# Altium integrated library Renesas Microcontroller 720.IntLib: 63 symbols (part 1 of 3)
Pins are listed as number, name and electrical type; pins without a type are passive.

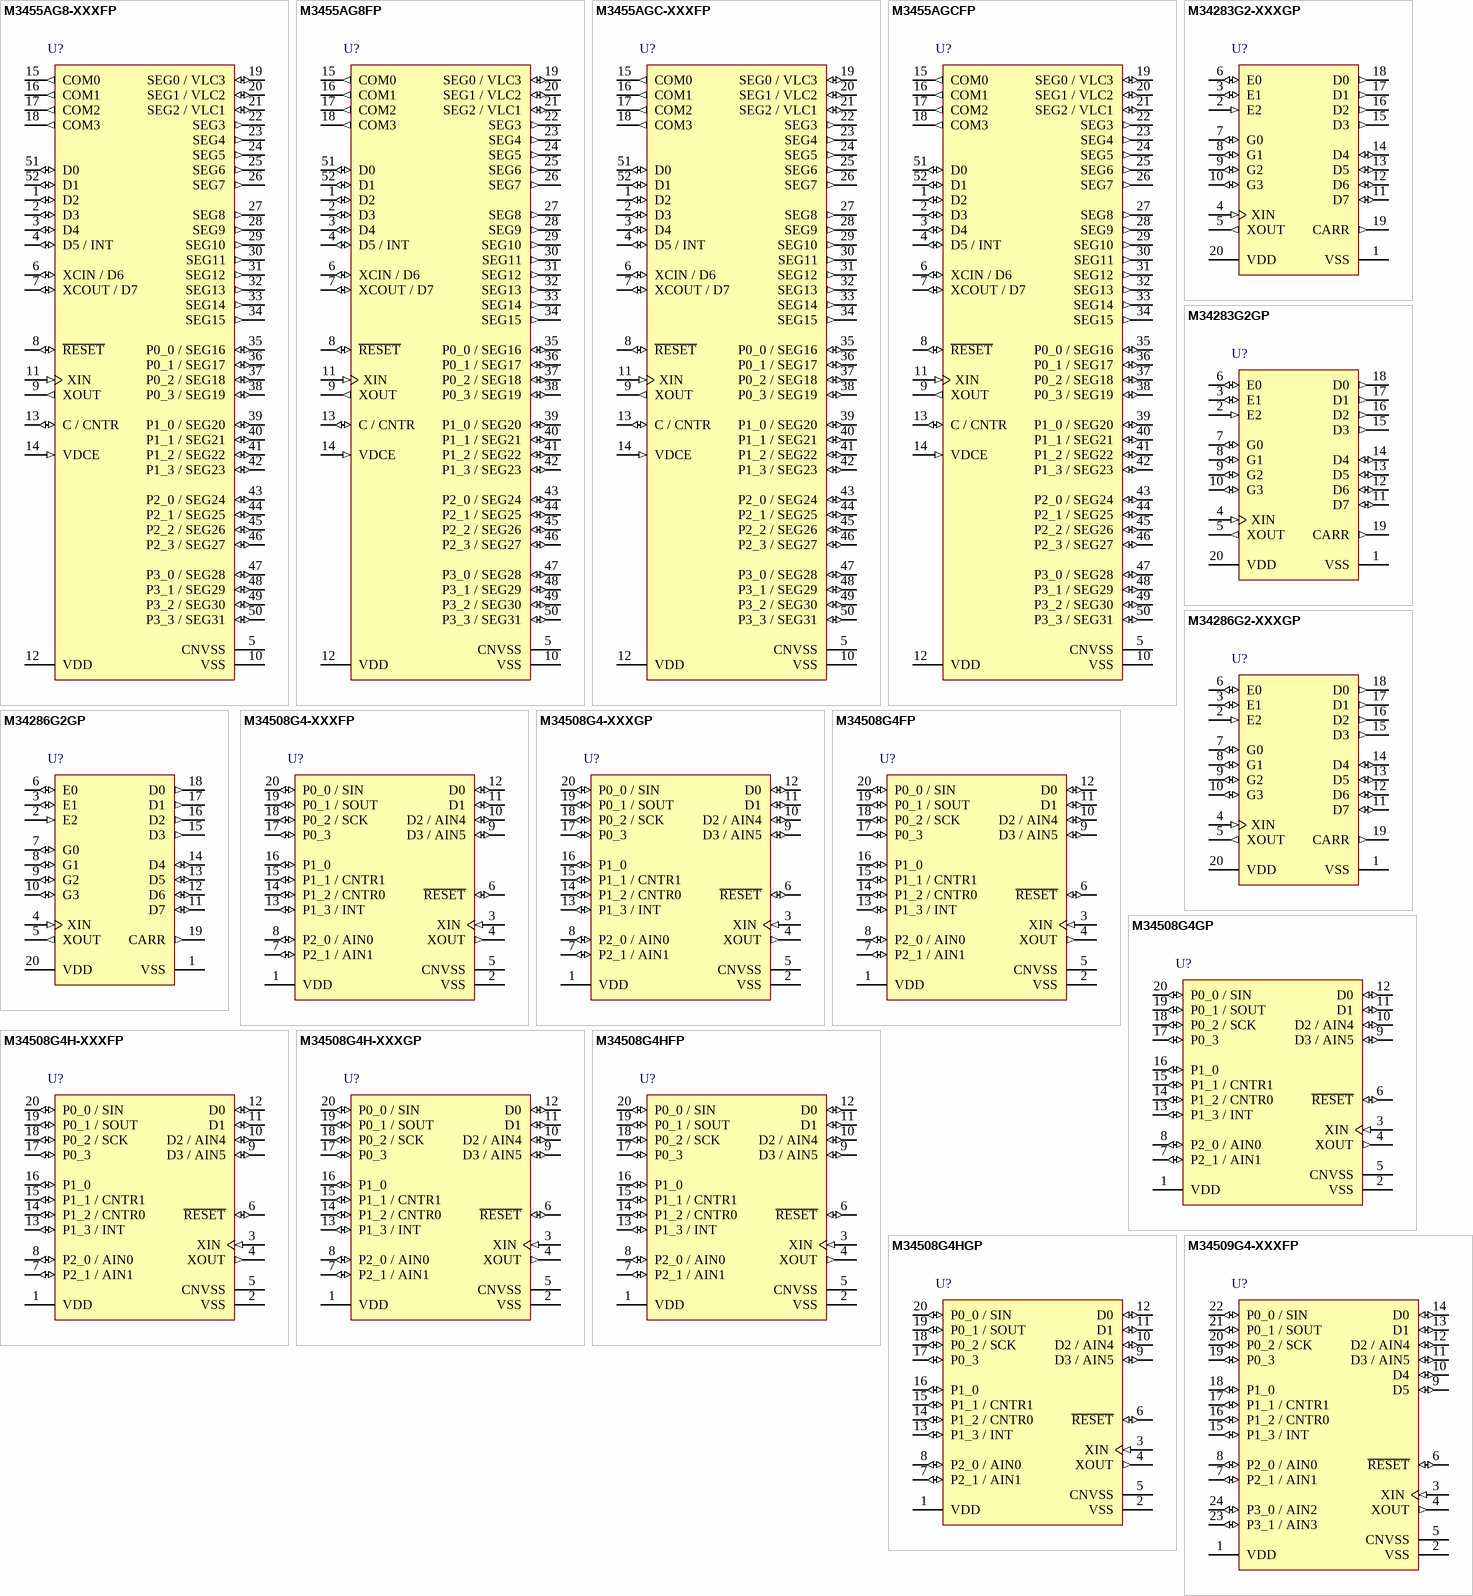
[diagram p0: symbols M3455AG8-XXXFP to M34509G4-XXXFP]

## M3455AG8-XXXFP
designator U?
QzROM 4-BIT CMOS Microcomputer, 4500/720 Series CPU, 455A Group, 8192 x 10 bit ROM, 512 x 4 bit RAM, 52P6A-A Pkg; Published: 28-Aug-2009; DatasheetVersion: Rev.1.02, Nov-2008; PackageVersion: Nov-2007; PackageReference: PLQP0052JA-A; Publisher: Altium Limited; PackageDescription: 52-Pin Plastic Low Profile QFP, 10 x 10 x 1.4 mm Body, 0.65 mm Pitch; Code_JEITA: P-LQFP52-10x10-0.65; ComponentLink1Description: Manufacturer Link; ComponentLink1URL: http://sg.renesas.com/fmwk.jsp?cnt=720_family_landing.jsp&fp=/products/mpumcu/720_family/; ComponentLink2Description: Datasheet; ComponentLink2URL: http://documentation.renesas.com/eng/products/mpumcu/rej03b0224_455ads.pdf; ComponentLink3Description: Packaging Specification; ComponentLink3URL: http://sg.renesas.com/media/products/common_info/package/pdf/ic/code/plqp0052ja_a.pdf
footprint PLQP0052JA-A_N (QFP, 52-Leads, Body 10x10mm, Pitch 0.65mm, IPC Medium Density)
footprint PLQP0052JA-A_L (QFP, 52-Leads, Body 10x10mm, Pitch 0.65mm, IPC High Density)
footprint PLQP0052JA-A_M (QFP, 52-Leads, Body 10x10mm, Pitch 0.65mm, IPC Low Density)
pins: 1 D2 (io), 2 D3 (io), 3 D4 (io), 4 D5 / INT (io), 5 CNVSS (power), 6 XCIN / D6 (io), 7 XCOUT / D7 (io), 8 ~{RESET} (io), 9 XOUT (out), 10 VSS (power), 11 XIN (in), 12 VDD (power), 13 C / CNTR (io), 14 VDCE (in), 15 COM0 (out), 16 COM1 (out), 17 COM2 (out), 18 COM3 (out), 19 SEG0 / VLC3 (io), 20 SEG1 / VLC2 (io), 21 SEG2 / VLC1 (io), 22 SEG3 (out), 23 SEG4 (out), 24 SEG5 (out), 25 SEG6 (out), 26 SEG7 (out), 27 SEG8 (out), 28 SEG9 (out), 29 SEG10 (out), 30 SEG11 (out), 31 SEG12 (out), 32 SEG13 (out), 33 SEG14 (out), 34 SEG15 (out), 35 P0_0 / SEG16 (io), 36 P0_1 / SEG17 (io), 37 P0_2 / SEG18 (io), 38 P0_3 / SEG19 (io), 39 P1_0 / SEG20 (io), 40 P1_1 / SEG21 (io), 41 P1_2 / SEG22 (io), 42 P1_3 / SEG23 (io), 43 P2_0 / SEG24 (io), 44 P2_1 / SEG25 (io), 45 P2_2 / SEG26 (io), 46 P2_3 / SEG27 (io), 47 P3_0 / SEG28 (io), 48 P3_1 / SEG29 (io), 49 P3_2 / SEG30 (io), 50 P3_3 / SEG31 (io), 51 D0 (io), 52 D1 (io)

## M3455AG8FP
designator U?
QzROM 4-BIT CMOS Microcomputer, 4500/720 Series CPU, 455A Group, 8192 x 10 bit ROM, 512 x 4 bit RAM, 52P6A-A Pkg, shipped in blank; Published: 28-Aug-2009; DatasheetVersion: Rev.1.02, Nov-2008; PackageVersion: Nov-2007; PackageReference: PLQP0052JA-A; Publisher: Altium Limited; PackageDescription: 52-Pin Plastic Low Profile QFP, 10 x 10 x 1.4 mm Body, 0.65 mm Pitch; Code_JEITA: P-LQFP52-10x10-0.65; ComponentLink1Description: Manufacturer Link; ComponentLink1URL: http://sg.renesas.com/fmwk.jsp?cnt=720_family_landing.jsp&fp=/products/mpumcu/720_family/; ComponentLink2Description: Datasheet; ComponentLink2URL: http://documentation.renesas.com/eng/products/mpumcu/rej03b0224_455ads.pdf; ComponentLink3Description: Packaging Specification; ComponentLink3URL: http://sg.renesas.com/media/products/common_info/package/pdf/ic/code/plqp0052ja_a.pdf
footprint PLQP0052JA-A_N (QFP, 52-Leads, Body 10x10mm, Pitch 0.65mm, IPC Medium Density)
footprint PLQP0052JA-A_L (QFP, 52-Leads, Body 10x10mm, Pitch 0.65mm, IPC High Density)
footprint PLQP0052JA-A_M (QFP, 52-Leads, Body 10x10mm, Pitch 0.65mm, IPC Low Density)
pins: 1 D2 (io), 2 D3 (io), 3 D4 (io), 4 D5 / INT (io), 5 CNVSS (power), 6 XCIN / D6 (io), 7 XCOUT / D7 (io), 8 ~{RESET} (io), 9 XOUT (out), 10 VSS (power), 11 XIN (in), 12 VDD (power), 13 C / CNTR (io), 14 VDCE (in), 15 COM0 (out), 16 COM1 (out), 17 COM2 (out), 18 COM3 (out), 19 SEG0 / VLC3 (io), 20 SEG1 / VLC2 (io), 21 SEG2 / VLC1 (io), 22 SEG3 (out), 23 SEG4 (out), 24 SEG5 (out), 25 SEG6 (out), 26 SEG7 (out), 27 SEG8 (out), 28 SEG9 (out), 29 SEG10 (out), 30 SEG11 (out), 31 SEG12 (out), 32 SEG13 (out), 33 SEG14 (out), 34 SEG15 (out), 35 P0_0 / SEG16 (io), 36 P0_1 / SEG17 (io), 37 P0_2 / SEG18 (io), 38 P0_3 / SEG19 (io), 39 P1_0 / SEG20 (io), 40 P1_1 / SEG21 (io), 41 P1_2 / SEG22 (io), 42 P1_3 / SEG23 (io), 43 P2_0 / SEG24 (io), 44 P2_1 / SEG25 (io), 45 P2_2 / SEG26 (io), 46 P2_3 / SEG27 (io), 47 P3_0 / SEG28 (io), 48 P3_1 / SEG29 (io), 49 P3_2 / SEG30 (io), 50 P3_3 / SEG31 (io), 51 D0 (io), 52 D1 (io)

## M3455AGC-XXXFP
designator U?
QzROM 4-BIT CMOS Microcomputer, 4500/720 Series CPU, 455A Group, 12288 x 10 bit ROM, 512 x 4 bit RAM, 52P6A-A Pkg; Published: 28-Aug-2009; DatasheetVersion: Rev.1.02, Nov-2008; PackageVersion: Nov-2007; PackageReference: PLQP0052JA-A; Publisher: Altium Limited; PackageDescription: 52-Pin Plastic Low Profile QFP, 10 x 10 x 1.4 mm Body, 0.65 mm Pitch; Code_JEITA: P-LQFP52-10x10-0.65; ComponentLink1Description: Manufacturer Link; ComponentLink1URL: http://sg.renesas.com/fmwk.jsp?cnt=720_family_landing.jsp&fp=/products/mpumcu/720_family/; ComponentLink2Description: Datasheet; ComponentLink2URL: http://documentation.renesas.com/eng/products/mpumcu/rej03b0224_455ads.pdf; ComponentLink3Description: Packaging Specification; ComponentLink3URL: http://sg.renesas.com/media/products/common_info/package/pdf/ic/code/plqp0052ja_a.pdf
footprint PLQP0052JA-A_N (QFP, 52-Leads, Body 10x10mm, Pitch 0.65mm, IPC Medium Density)
footprint PLQP0052JA-A_L (QFP, 52-Leads, Body 10x10mm, Pitch 0.65mm, IPC High Density)
footprint PLQP0052JA-A_M (QFP, 52-Leads, Body 10x10mm, Pitch 0.65mm, IPC Low Density)
pins: 1 D2 (io), 2 D3 (io), 3 D4 (io), 4 D5 / INT (io), 5 CNVSS (power), 6 XCIN / D6 (io), 7 XCOUT / D7 (io), 8 ~{RESET} (io), 9 XOUT (out), 10 VSS (power), 11 XIN (in), 12 VDD (power), 13 C / CNTR (io), 14 VDCE (in), 15 COM0 (out), 16 COM1 (out), 17 COM2 (out), 18 COM3 (out), 19 SEG0 / VLC3 (io), 20 SEG1 / VLC2 (io), 21 SEG2 / VLC1 (io), 22 SEG3 (out), 23 SEG4 (out), 24 SEG5 (out), 25 SEG6 (out), 26 SEG7 (out), 27 SEG8 (out), 28 SEG9 (out), 29 SEG10 (out), 30 SEG11 (out), 31 SEG12 (out), 32 SEG13 (out), 33 SEG14 (out), 34 SEG15 (out), 35 P0_0 / SEG16 (io), 36 P0_1 / SEG17 (io), 37 P0_2 / SEG18 (io), 38 P0_3 / SEG19 (io), 39 P1_0 / SEG20 (io), 40 P1_1 / SEG21 (io), 41 P1_2 / SEG22 (io), 42 P1_3 / SEG23 (io), 43 P2_0 / SEG24 (io), 44 P2_1 / SEG25 (io), 45 P2_2 / SEG26 (io), 46 P2_3 / SEG27 (io), 47 P3_0 / SEG28 (io), 48 P3_1 / SEG29 (io), 49 P3_2 / SEG30 (io), 50 P3_3 / SEG31 (io), 51 D0 (io), 52 D1 (io)

## M3455AGCFP
designator U?
QzROM 4-BIT CMOS Microcomputer, 4500/720 Series CPU, 455A Group, 12288 x 10 bit ROM, 512 x 4 bit RAM, 52P6A-A Pkg, shipped in blank; Published: 28-Aug-2009; DatasheetVersion: Rev.1.02, Nov-2008; PackageVersion: Nov-2007; PackageReference: PLQP0052JA-A; Publisher: Altium Limited; PackageDescription: 52-Pin Plastic Low Profile QFP, 10 x 10 x 1.4 mm Body, 0.65 mm Pitch; Code_JEITA: P-LQFP52-10x10-0.65; ComponentLink1Description: Manufacturer Link; ComponentLink1URL: http://sg.renesas.com/fmwk.jsp?cnt=720_family_landing.jsp&fp=/products/mpumcu/720_family/; ComponentLink2Description: Datasheet; ComponentLink2URL: http://documentation.renesas.com/eng/products/mpumcu/rej03b0224_455ads.pdf; ComponentLink3Description: Packaging Specification; ComponentLink3URL: http://sg.renesas.com/media/products/common_info/package/pdf/ic/code/plqp0052ja_a.pdf
footprint PLQP0052JA-A_N (QFP, 52-Leads, Body 10x10mm, Pitch 0.65mm, IPC Medium Density)
footprint PLQP0052JA-A_L (QFP, 52-Leads, Body 10x10mm, Pitch 0.65mm, IPC High Density)
footprint PLQP0052JA-A_M (QFP, 52-Leads, Body 10x10mm, Pitch 0.65mm, IPC Low Density)
pins: 1 D2 (io), 2 D3 (io), 3 D4 (io), 4 D5 / INT (io), 5 CNVSS (power), 6 XCIN / D6 (io), 7 XCOUT / D7 (io), 8 ~{RESET} (io), 9 XOUT (out), 10 VSS (power), 11 XIN (in), 12 VDD (power), 13 C / CNTR (io), 14 VDCE (in), 15 COM0 (out), 16 COM1 (out), 17 COM2 (out), 18 COM3 (out), 19 SEG0 / VLC3 (io), 20 SEG1 / VLC2 (io), 21 SEG2 / VLC1 (io), 22 SEG3 (out), 23 SEG4 (out), 24 SEG5 (out), 25 SEG6 (out), 26 SEG7 (out), 27 SEG8 (out), 28 SEG9 (out), 29 SEG10 (out), 30 SEG11 (out), 31 SEG12 (out), 32 SEG13 (out), 33 SEG14 (out), 34 SEG15 (out), 35 P0_0 / SEG16 (io), 36 P0_1 / SEG17 (io), 37 P0_2 / SEG18 (io), 38 P0_3 / SEG19 (io), 39 P1_0 / SEG20 (io), 40 P1_1 / SEG21 (io), 41 P1_2 / SEG22 (io), 42 P1_3 / SEG23 (io), 43 P2_0 / SEG24 (io), 44 P2_1 / SEG25 (io), 45 P2_2 / SEG26 (io), 46 P2_3 / SEG27 (io), 47 P3_0 / SEG28 (io), 48 P3_1 / SEG29 (io), 49 P3_2 / SEG30 (io), 50 P3_3 / SEG31 (io), 51 D0 (io), 52 D1 (io)

## M34283G2-XXXGP
designator U?
QzROM 4-BIT CMOS Microcomputer, 4500/720 Series CPU, 4283 Group, 2048 x 10 bit ROM, 64 x 4 bit RAM, 20P2F-A Pkg; Published: 28-Aug-2009; DatasheetVersion: Rev.1.01, Mar-2006; PackageVersion: Sep-2005; PackageReference: PLSP0020JB-A; Publisher: Altium Limited; PackageDescription: 20-Pin Plastic Low Profile Shrink SOP, 6.5 x 4.4 x 1.15 mm Body, 0.65 mm Pitch; Code_JEITA: P-LSSOP20-4.4x6.5-0.65; Code_JEDEC: MO-152-AC; ComponentLink1Description: Manufacturer Link; ComponentLink1URL: http://sg.renesas.com/fmwk.jsp?cnt=720_family_landing.jsp&fp=/products/mpumcu/720_family/; ComponentLink2Description: Datasheet; ComponentLink2URL: http://documentation.renesas.com/eng/products/mpumcu/rej03b0109_4283ds.pdf; ComponentLink3Description: Packaging Specification; ComponentLink3URL: http://sg.renesas.com/media/products/common_info/package/pdf/ic/code/plsp0020jb_a.pdf
footprint PLSP0020JB-A_N (SOP, 20-Leads, Body 6.5x4.4mm, Pitch 0.65mm, IPC Medium Density)
footprint PLSP0020JB-A_L (SOP, 20-Leads, Body 6.5x4.4mm, Pitch 0.65mm, IPC High Density)
footprint PLSP0020JB-A_M (SOP, 20-Leads, Body 6.5x4.4mm, Pitch 0.65mm, IPC Low Density)
pins: 1 VSS (power), 2 E2 (in), 3 E1 (io), 4 XIN (in), 5 XOUT (out), 6 E0 (io), 7 G0 (io), 8 G1 (io), 9 G2 (io), 10 G3 (io), 11 D7 (io), 12 D6 (io), 13 D5 (io), 14 D4 (io), 15 D3 (out), 16 D2 (out), 17 D1 (out), 18 D0 (out), 19 CARR (out), 20 VDD (power)

## M34283G2GP
designator U?
QzROM 4-BIT CMOS Microcomputer, 4500/720 Series CPU, 4283 Group, 2048 x 10 bit ROM, 64 x 4 bit RAM, 20P2F-A Pkg, shipped in blank; Published: 28-Aug-2009; DatasheetVersion: Rev.1.01, Mar-2006; PackageVersion: Sep-2005; PackageReference: PLSP0020JB-A; Publisher: Altium Limited; PackageDescription: 20-Pin Plastic Low Profile Shrink SOP, 6.5 x 4.4 x 1.15 mm Body, 0.65 mm Pitch; Code_JEITA: P-LSSOP20-4.4x6.5-0.65; Code_JEDEC: MO-152-AC; ComponentLink1Description: Manufacturer Link; ComponentLink1URL: http://sg.renesas.com/fmwk.jsp?cnt=720_family_landing.jsp&fp=/products/mpumcu/720_family/; ComponentLink2Description: Datasheet; ComponentLink2URL: http://documentation.renesas.com/eng/products/mpumcu/rej03b0109_4283ds.pdf; ComponentLink3Description: Packaging Specification; ComponentLink3URL: http://sg.renesas.com/media/products/common_info/package/pdf/ic/code/plsp0020jb_a.pdf
footprint PLSP0020JB-A_N (SOP, 20-Leads, Body 6.5x4.4mm, Pitch 0.65mm, IPC Medium Density)
footprint PLSP0020JB-A_L (SOP, 20-Leads, Body 6.5x4.4mm, Pitch 0.65mm, IPC High Density)
footprint PLSP0020JB-A_M (SOP, 20-Leads, Body 6.5x4.4mm, Pitch 0.65mm, IPC Low Density)
pins: 1 VSS (power), 2 E2 (in), 3 E1 (io), 4 XIN (in), 5 XOUT (out), 6 E0 (io), 7 G0 (io), 8 G1 (io), 9 G2 (io), 10 G3 (io), 11 D7 (io), 12 D6 (io), 13 D5 (io), 14 D4 (io), 15 D3 (out), 16 D2 (out), 17 D1 (out), 18 D0 (out), 19 CARR (out), 20 VDD (power)

## M34286G2-XXXGP
designator U?
QzROM 4-BIT CMOS Microcomputer, 4500/720 Series CPU, 4286 Group, 2048 x 10 bit ROM, 64 x 4 bit RAM, 20P2F-A Pkg; Published: 28-Aug-2009; DatasheetVersion: Rev.1.00, Aug-2008; PackageVersion: Sep-2005; PackageReference: PLSP0020JB-A; Publisher: Altium Limited; PackageDescription: 20-Pin Plastic Low Profile Shrink SOP, 6.5 x 4.4 x 1.15 mm Body, 0.65 mm Pitch; Code_JEITA: P-LSSOP20-4.4x6.5-0.65; Code_JEDEC: MO-152-AC; ComponentLink1Description: Manufacturer Link; ComponentLink1URL: http://sg.renesas.com/fmwk.jsp?cnt=720_family_landing.jsp&fp=/products/mpumcu/720_family/; ComponentLink2Description: Datasheet; ComponentLink2URL: http://documentation.renesas.com/eng/products/mpumcu/rej03b0251_4286ds.pdf; ComponentLink3Description: Packaging Specification; ComponentLink3URL: http://sg.renesas.com/media/products/common_info/package/pdf/ic/code/plsp0020jb_a.pdf
footprint PLSP0020JB-A_N (SOP, 20-Leads, Body 6.5x4.4mm, Pitch 0.65mm, IPC Medium Density)
footprint PLSP0020JB-A_L (SOP, 20-Leads, Body 6.5x4.4mm, Pitch 0.65mm, IPC High Density)
footprint PLSP0020JB-A_M (SOP, 20-Leads, Body 6.5x4.4mm, Pitch 0.65mm, IPC Low Density)
pins: 1 VSS (power), 2 E2 (in), 3 E1 (io), 4 XIN (in), 5 XOUT (out), 6 E0 (io), 7 G0 (io), 8 G1 (io), 9 G2 (io), 10 G3 (io), 11 D7 (io), 12 D6 (io), 13 D5 (io), 14 D4 (io), 15 D3 (out), 16 D2 (out), 17 D1 (out), 18 D0 (out), 19 CARR (out), 20 VDD (power)

## M34286G2GP
designator U?
QzROM 4-BIT CMOS Microcomputer, 4500/720 Series CPU, 4286 Group, 2048 x 10 bit ROM, 64 x 4 bit RAM, 20P2F-A Pkg, shipped in blank; Published: 28-Aug-2009; DatasheetVersion: Rev.1.00, Aug-2008; PackageVersion: Sep-2005; PackageReference: PLSP0020JB-A; Publisher: Altium Limited; PackageDescription: 20-Pin Plastic Low Profile Shrink SOP, 6.5 x 4.4 x 1.15 mm Body, 0.65 mm Pitch; Code_JEITA: P-LSSOP20-4.4x6.5-0.65; Code_JEDEC: MO-152-AC; ComponentLink1Description: Manufacturer Link; ComponentLink1URL: http://sg.renesas.com/fmwk.jsp?cnt=720_family_landing.jsp&fp=/products/mpumcu/720_family/; ComponentLink2Description: Datasheet; ComponentLink2URL: http://documentation.renesas.com/eng/products/mpumcu/rej03b0251_4286ds.pdf; ComponentLink3Description: Packaging Specification; ComponentLink3URL: http://sg.renesas.com/media/products/common_info/package/pdf/ic/code/plsp0020jb_a.pdf
footprint PLSP0020JB-A_N (SOP, 20-Leads, Body 6.5x4.4mm, Pitch 0.65mm, IPC Medium Density)
footprint PLSP0020JB-A_L (SOP, 20-Leads, Body 6.5x4.4mm, Pitch 0.65mm, IPC High Density)
footprint PLSP0020JB-A_M (SOP, 20-Leads, Body 6.5x4.4mm, Pitch 0.65mm, IPC Low Density)
pins: 1 VSS (power), 2 E2 (in), 3 E1 (io), 4 XIN (in), 5 XOUT (out), 6 E0 (io), 7 G0 (io), 8 G1 (io), 9 G2 (io), 10 G3 (io), 11 D7 (io), 12 D6 (io), 13 D5 (io), 14 D4 (io), 15 D3 (out), 16 D2 (out), 17 D1 (out), 18 D0 (out), 19 CARR (out), 20 VDD (power)

## M34508G4-XXXFP
designator U?
QzROM 4-BIT CMOS Microcomputer, 4500/720 Series CPU, 4508 Group, 4096 x 10 bit ROM, 256 x 4 bit RAM, 131 basic instructions, 20P2N-A Pkg; Published: 28-Aug-2009; DatasheetVersion: Rev.1.03, Jul-2009; PackageVersion: Sep-2005; PackageReference: PRSP0020DA-A; Publisher: Altium Limited; PackageDescription: 20-Pin Plastic Small Outline Package, 12.6 x 5.3 x 1.8 mm Body, 1.27 mm Pitch; Code_JEITA: P-SOP20-5.3x12.6-1.27; ComponentLink1Description: Manufacturer Link; ComponentLink1URL: http://sg.renesas.com/fmwk.jsp?cnt=720_family_landing.jsp&fp=/products/mpumcu/720_family/; ComponentLink2Description: Datasheet; ComponentLink2URL: http://documentation.renesas.com/eng/products/mpumcu/rej03b0148_4508ds.pdf; ComponentLink3Description: Packaging Specification; ComponentLink3URL: http://sg.renesas.com/media/products/common_info/package/pdf/ic/code/prsp0020da_a.pdf
footprint PRSP0020DA-A_N (SOP, 20-Leads, Body 12.6x5.3mm, Pitch 1.27mm, IPC Medium Density)
footprint PRSP0020DA-A_L (SOP, 20-Leads, Body 12.6x5.3mm, Pitch 1.27mm, IPC High Density)
footprint PRSP0020DA-A_M (SOP, 20-Leads, Body 12.6x5.3mm, Pitch 1.27mm, IPC Low Density)
pins: 1 VDD (power), 2 VSS (power), 3 XIN (in), 4 XOUT (out), 5 CNVSS (power), 6 ~{RESET} (io), 7 P2_1 / AIN1 (io), 8 P2_0 / AIN0 (io), 9 D3 / AIN5 (io), 10 D2 / AIN4 (io), 11 D1 (io), 12 D0 (io), 13 P1_3 / INT (io), 14 P1_2 / CNTR0 (io), 15 P1_1 / CNTR1 (io), 16 P1_0 (io), 17 P0_3 (io), 18 P0_2 / SCK (io), 19 P0_1 / SOUT (io), 20 P0_0 / SIN (io)

## M34508G4-XXXGP
designator U?
QzROM 4-BIT CMOS Microcomputer, 4500/720 Series CPU, 4508 Group, 4096 x 10 bit ROM, 256 x 4 bit RAM, 131 basic instructions, 20P2F-A Pkg; Published: 28-Aug-2009; DatasheetVersion: Rev.1.03, Jul-2009; PackageVersion: Sep-2005; PackageReference: PLSP0020JB-A; Publisher: Altium Limited; PackageDescription: 20-Pin Plastic Low Profile Shrink SOP, 6.5 x 4.4 x 1.15 mm Body, 0.65 mm Pitch; Code_JEITA: P-LSSOP20-4.4x6.5-0.65; Code_JEDEC: MO-152-AC; ComponentLink1Description: Manufacturer Link; ComponentLink1URL: http://sg.renesas.com/fmwk.jsp?cnt=720_family_landing.jsp&fp=/products/mpumcu/720_family/; ComponentLink2Description: Datasheet; ComponentLink2URL: http://documentation.renesas.com/eng/products/mpumcu/rej03b0148_4508ds.pdf; ComponentLink3Description: Packaging Specification; ComponentLink3URL: http://sg.renesas.com/media/products/common_info/package/pdf/ic/code/plsp0020jb_a.pdf
footprint PLSP0020JB-A_N (SOP, 20-Leads, Body 6.5x4.4mm, Pitch 0.65mm, IPC Medium Density)
footprint PLSP0020JB-A_L (SOP, 20-Leads, Body 6.5x4.4mm, Pitch 0.65mm, IPC High Density)
footprint PLSP0020JB-A_M (SOP, 20-Leads, Body 6.5x4.4mm, Pitch 0.65mm, IPC Low Density)
pins: 1 VDD (power), 2 VSS (power), 3 XIN (in), 4 XOUT (out), 5 CNVSS (power), 6 ~{RESET} (io), 7 P2_1 / AIN1 (io), 8 P2_0 / AIN0 (io), 9 D3 / AIN5 (io), 10 D2 / AIN4 (io), 11 D1 (io), 12 D0 (io), 13 P1_3 / INT (io), 14 P1_2 / CNTR0 (io), 15 P1_1 / CNTR1 (io), 16 P1_0 (io), 17 P0_3 (io), 18 P0_2 / SCK (io), 19 P0_1 / SOUT (io), 20 P0_0 / SIN (io)

## M34508G4FP
designator U?
QzROM 4-BIT CMOS Microcomputer, 4500/720 Series CPU, 4508 Group, 4096 x 10 bit ROM, 256 x 4 bit RAM, 131 basic instructions, 20P2N-A Pkg, shipped in blank; Published: 28-Aug-2009; DatasheetVersion: Rev.1.03, Jul-2009; PackageVersion: Sep-2005; PackageReference: PRSP0020DA-A; Publisher: Altium Limited; PackageDescription: 20-Pin Plastic Small Outline Package, 12.6 x 5.3 x 1.8 mm Body, 1.27 mm Pitch; Code_JEITA: P-SOP20-5.3x12.6-1.27; ComponentLink1Description: Manufacturer Link; ComponentLink1URL: http://sg.renesas.com/fmwk.jsp?cnt=720_family_landing.jsp&fp=/products/mpumcu/720_family/; ComponentLink2Description: Datasheet; ComponentLink2URL: http://documentation.renesas.com/eng/products/mpumcu/rej03b0148_4508ds.pdf; ComponentLink3Description: Packaging Specification; ComponentLink3URL: http://sg.renesas.com/media/products/common_info/package/pdf/ic/code/prsp0020da_a.pdf
footprint PRSP0020DA-A_N (SOP, 20-Leads, Body 12.6x5.3mm, Pitch 1.27mm, IPC Medium Density)
footprint PRSP0020DA-A_L (SOP, 20-Leads, Body 12.6x5.3mm, Pitch 1.27mm, IPC High Density)
footprint PRSP0020DA-A_M (SOP, 20-Leads, Body 12.6x5.3mm, Pitch 1.27mm, IPC Low Density)
pins: 1 VDD (power), 2 VSS (power), 3 XIN (in), 4 XOUT (out), 5 CNVSS (power), 6 ~{RESET} (io), 7 P2_1 / AIN1 (io), 8 P2_0 / AIN0 (io), 9 D3 / AIN5 (io), 10 D2 / AIN4 (io), 11 D1 (io), 12 D0 (io), 13 P1_3 / INT (io), 14 P1_2 / CNTR0 (io), 15 P1_1 / CNTR1 (io), 16 P1_0 (io), 17 P0_3 (io), 18 P0_2 / SCK (io), 19 P0_1 / SOUT (io), 20 P0_0 / SIN (io)

## M34508G4GP
designator U?
QzROM 4-BIT CMOS Microcomputer, 4500/720 Series CPU, 4508 Group, 4096 x 10 bit ROM, 256 x 4 bit RAM, 131 basic instructions, 20P2F-A Pkg, shipped in blank; Published: 28-Aug-2009; DatasheetVersion: Rev.1.03, Jul-2009; PackageVersion: Sep-2005; PackageReference: PLSP0020JB-A; Publisher: Altium Limited; PackageDescription: 20-Pin Plastic Low Profile Shrink SOP, 6.5 x 4.4 x 1.15 mm Body, 0.65 mm Pitch; Code_JEITA: P-LSSOP20-4.4x6.5-0.65; Code_JEDEC: MO-152-AC; ComponentLink1Description: Manufacturer Link; ComponentLink1URL: http://sg.renesas.com/fmwk.jsp?cnt=720_family_landing.jsp&fp=/products/mpumcu/720_family/; ComponentLink2Description: Datasheet; ComponentLink2URL: http://documentation.renesas.com/eng/products/mpumcu/rej03b0148_4508ds.pdf; ComponentLink3Description: Packaging Specification; ComponentLink3URL: http://sg.renesas.com/media/products/common_info/package/pdf/ic/code/plsp0020jb_a.pdf
footprint PLSP0020JB-A_N (SOP, 20-Leads, Body 6.5x4.4mm, Pitch 0.65mm, IPC Medium Density)
footprint PLSP0020JB-A_L (SOP, 20-Leads, Body 6.5x4.4mm, Pitch 0.65mm, IPC High Density)
footprint PLSP0020JB-A_M (SOP, 20-Leads, Body 6.5x4.4mm, Pitch 0.65mm, IPC Low Density)
pins: 1 VDD (power), 2 VSS (power), 3 XIN (in), 4 XOUT (out), 5 CNVSS (power), 6 ~{RESET} (io), 7 P2_1 / AIN1 (io), 8 P2_0 / AIN0 (io), 9 D3 / AIN5 (io), 10 D2 / AIN4 (io), 11 D1 (io), 12 D0 (io), 13 P1_3 / INT (io), 14 P1_2 / CNTR0 (io), 15 P1_1 / CNTR1 (io), 16 P1_0 (io), 17 P0_3 (io), 18 P0_2 / SCK (io), 19 P0_1 / SOUT (io), 20 P0_0 / SIN (io)

## M34508G4H-XXXFP
designator U?
QzROM 4-BIT CMOS Microcomputer, 4500/720 Series CPU, 4508 Group, 4096 x 10 bit ROM, 256 x 4 bit RAM, 132 basic instructions, 20P2N-A Pkg; Published: 28-Aug-2009; DatasheetVersion: Rev.1.03, Jul-2009; PackageVersion: Sep-2005; PackageReference: PRSP0020DA-A; Publisher: Altium Limited; PackageDescription: 20-Pin Plastic Small Outline Package, 12.6 x 5.3 x 1.8 mm Body, 1.27 mm Pitch; Code_JEITA: P-SOP20-5.3x12.6-1.27; ComponentLink1Description: Manufacturer Link; ComponentLink1URL: http://sg.renesas.com/fmwk.jsp?cnt=720_family_landing.jsp&fp=/products/mpumcu/720_family/; ComponentLink2Description: Datasheet; ComponentLink2URL: http://documentation.renesas.com/eng/products/mpumcu/rej03b0148_4508ds.pdf; ComponentLink3Description: Packaging Specification; ComponentLink3URL: http://sg.renesas.com/media/products/common_info/package/pdf/ic/code/prsp0020da_a.pdf
footprint PRSP0020DA-A_N (SOP, 20-Leads, Body 12.6x5.3mm, Pitch 1.27mm, IPC Medium Density)
footprint PRSP0020DA-A_L (SOP, 20-Leads, Body 12.6x5.3mm, Pitch 1.27mm, IPC High Density)
footprint PRSP0020DA-A_M (SOP, 20-Leads, Body 12.6x5.3mm, Pitch 1.27mm, IPC Low Density)
pins: 1 VDD (power), 2 VSS (power), 3 XIN (in), 4 XOUT (out), 5 CNVSS (power), 6 ~{RESET} (io), 7 P2_1 / AIN1 (io), 8 P2_0 / AIN0 (io), 9 D3 / AIN5 (io), 10 D2 / AIN4 (io), 11 D1 (io), 12 D0 (io), 13 P1_3 / INT (io), 14 P1_2 / CNTR0 (io), 15 P1_1 / CNTR1 (io), 16 P1_0 (io), 17 P0_3 (io), 18 P0_2 / SCK (io), 19 P0_1 / SOUT (io), 20 P0_0 / SIN (io)

## M34508G4H-XXXGP
designator U?
QzROM 4-BIT CMOS Microcomputer, 4500/720 Series CPU, 4508 Group, 4096 x 10 bit ROM, 256 x 4 bit RAM, 132 basic instructions, 20P2F-A Pkg; Published: 28-Aug-2009; DatasheetVersion: Rev.1.03, Jul-2009; PackageVersion: Sep-2005; PackageReference: PLSP0020JB-A; Publisher: Altium Limited; PackageDescription: 20-Pin Plastic Low Profile Shrink SOP, 6.5 x 4.4 x 1.15 mm Body, 0.65 mm Pitch; Code_JEITA: P-LSSOP20-4.4x6.5-0.65; Code_JEDEC: MO-152-AC; ComponentLink1Description: Manufacturer Link; ComponentLink1URL: http://sg.renesas.com/fmwk.jsp?cnt=720_family_landing.jsp&fp=/products/mpumcu/720_family/; ComponentLink2Description: Datasheet; ComponentLink2URL: http://documentation.renesas.com/eng/products/mpumcu/rej03b0148_4508ds.pdf; ComponentLink3Description: Packaging Specification; ComponentLink3URL: http://sg.renesas.com/media/products/common_info/package/pdf/ic/code/plsp0020jb_a.pdf
footprint PLSP0020JB-A_N (SOP, 20-Leads, Body 6.5x4.4mm, Pitch 0.65mm, IPC Medium Density)
footprint PLSP0020JB-A_L (SOP, 20-Leads, Body 6.5x4.4mm, Pitch 0.65mm, IPC High Density)
footprint PLSP0020JB-A_M (SOP, 20-Leads, Body 6.5x4.4mm, Pitch 0.65mm, IPC Low Density)
pins: 1 VDD (power), 2 VSS (power), 3 XIN (in), 4 XOUT (out), 5 CNVSS (power), 6 ~{RESET} (io), 7 P2_1 / AIN1 (io), 8 P2_0 / AIN0 (io), 9 D3 / AIN5 (io), 10 D2 / AIN4 (io), 11 D1 (io), 12 D0 (io), 13 P1_3 / INT (io), 14 P1_2 / CNTR0 (io), 15 P1_1 / CNTR1 (io), 16 P1_0 (io), 17 P0_3 (io), 18 P0_2 / SCK (io), 19 P0_1 / SOUT (io), 20 P0_0 / SIN (io)

## M34508G4HFP
designator U?
QzROM 4-BIT CMOS Microcomputer, 4500/720 Series CPU, 4508 Group, 4096 x 10 bit ROM, 256 x 4 bit RAM, 132 basic instructions, 20P2N-A Pkg, shipped in blank; Published: 28-Aug-2009; DatasheetVersion: Rev.1.03, Jul-2009; PackageVersion: Sep-2005; PackageReference: PRSP0020DA-A; Publisher: Altium Limited; PackageDescription: 20-Pin Plastic Small Outline Package, 12.6 x 5.3 x 1.8 mm Body, 1.27 mm Pitch; Code_JEITA: P-SOP20-5.3x12.6-1.27; ComponentLink1Description: Manufacturer Link; ComponentLink1URL: http://sg.renesas.com/fmwk.jsp?cnt=720_family_landing.jsp&fp=/products/mpumcu/720_family/; ComponentLink2Description: Datasheet; ComponentLink2URL: http://documentation.renesas.com/eng/products/mpumcu/rej03b0148_4508ds.pdf; ComponentLink3Description: Packaging Specification; ComponentLink3URL: http://sg.renesas.com/media/products/common_info/package/pdf/ic/code/prsp0020da_a.pdf
footprint PRSP0020DA-A_N (SOP, 20-Leads, Body 12.6x5.3mm, Pitch 1.27mm, IPC Medium Density)
footprint PRSP0020DA-A_L (SOP, 20-Leads, Body 12.6x5.3mm, Pitch 1.27mm, IPC High Density)
footprint PRSP0020DA-A_M (SOP, 20-Leads, Body 12.6x5.3mm, Pitch 1.27mm, IPC Low Density)
pins: 1 VDD (power), 2 VSS (power), 3 XIN (in), 4 XOUT (out), 5 CNVSS (power), 6 ~{RESET} (io), 7 P2_1 / AIN1 (io), 8 P2_0 / AIN0 (io), 9 D3 / AIN5 (io), 10 D2 / AIN4 (io), 11 D1 (io), 12 D0 (io), 13 P1_3 / INT (io), 14 P1_2 / CNTR0 (io), 15 P1_1 / CNTR1 (io), 16 P1_0 (io), 17 P0_3 (io), 18 P0_2 / SCK (io), 19 P0_1 / SOUT (io), 20 P0_0 / SIN (io)

## M34508G4HGP
designator U?
QzROM 4-BIT CMOS Microcomputer, 4500/720 Series CPU, 4508 Group, 4096 x 10 bit ROM, 256 x 4 bit RAM, 132 basic instructions, 20P2F-A Pkg, shipped in blank; Published: 28-Aug-2009; DatasheetVersion: Rev.1.03, Jul-2009; PackageVersion: Sep-2005; PackageReference: PLSP0020JB-A; Publisher: Altium Limited; PackageDescription: 20-Pin Plastic Low Profile Shrink SOP, 6.5 x 4.4 x 1.15 mm Body, 0.65 mm Pitch; Code_JEITA: P-LSSOP20-4.4x6.5-0.65; Code_JEDEC: MO-152-AC; ComponentLink1Description: Manufacturer Link; ComponentLink1URL: http://sg.renesas.com/fmwk.jsp?cnt=720_family_landing.jsp&fp=/products/mpumcu/720_family/; ComponentLink2Description: Datasheet; ComponentLink2URL: http://documentation.renesas.com/eng/products/mpumcu/rej03b0148_4508ds.pdf; ComponentLink3Description: Packaging Specification; ComponentLink3URL: http://sg.renesas.com/media/products/common_info/package/pdf/ic/code/plsp0020jb_a.pdf
footprint PLSP0020JB-A_N (SOP, 20-Leads, Body 6.5x4.4mm, Pitch 0.65mm, IPC Medium Density)
footprint PLSP0020JB-A_L (SOP, 20-Leads, Body 6.5x4.4mm, Pitch 0.65mm, IPC High Density)
footprint PLSP0020JB-A_M (SOP, 20-Leads, Body 6.5x4.4mm, Pitch 0.65mm, IPC Low Density)
pins: 1 VDD (power), 2 VSS (power), 3 XIN (in), 4 XOUT (out), 5 CNVSS (power), 6 ~{RESET} (io), 7 P2_1 / AIN1 (io), 8 P2_0 / AIN0 (io), 9 D3 / AIN5 (io), 10 D2 / AIN4 (io), 11 D1 (io), 12 D0 (io), 13 P1_3 / INT (io), 14 P1_2 / CNTR0 (io), 15 P1_1 / CNTR1 (io), 16 P1_0 (io), 17 P0_3 (io), 18 P0_2 / SCK (io), 19 P0_1 / SOUT (io), 20 P0_0 / SIN (io)

## M34509G4-XXXFP
designator U?
QzROM 4-BIT CMOS Microcomputer, 4500/720 Series CPU, 4509 Group, 4096 x 10 bit ROM, 256 x 4 bit RAM, 134 basic instructions, 24P2Q-A Pkg; Published: 28-Aug-2009; DatasheetVersion: Rev.1.03, Jul-2009; PackageVersion: Sep-2005; PackageReference: PRSP0024GA-A; Publisher: Altium Limited; PackageDescription: 24-Pin Plastic Shrink SOP, 10.1 x 5.3 x 1.8 mm Body, 0.8 mm Pitch; Code_JEITA: P-SSOP24-5.3x10.1-0.80; ComponentLink1Description: Manufacturer Link; ComponentLink1URL: http://sg.renesas.com/fmwk.jsp?cnt=720_family_landing.jsp&fp=/products/mpumcu/720_family/; ComponentLink2Description: Datasheet; ComponentLink2URL: http://documentation.renesas.com/eng/products/mpumcu/rej03b0147_4509ds.pdf; ComponentLink3Description: Packaging Specification; ComponentLink3URL: http://sg.renesas.com/media/products/common_info/package/pdf/ic/code/prsp0024ga_a.pdf
footprint PRSP0024GA-A_N (SOP, 24-Leads, Body 10.1x5.3mm, Pitch 0.8mm, IPC Medium Density)
footprint PRSP0024GA-A_L (SOP, 24-Leads, Body 10.1x5.3mm, Pitch 0.8mm, IPC High Density)
footprint PRSP0024GA-A_M (SOP, 24-Leads, Body 10.1x5.3mm, Pitch 0.8mm, IPC Low Density)
pins: 1 VDD (power), 2 VSS (power), 3 XIN (in), 4 XOUT (out), 5 CNVSS (power), 6 ~{RESET} (io), 7 P2_1 / AIN1 (io), 8 P2_0 / AIN0 (io), 9 D5 (io), 10 D4 (io), 11 D3 / AIN5 (io), 12 D2 / AIN4 (io), 13 D1 (io), 14 D0 (io), 15 P1_3 / INT (io), 16 P1_2 / CNTR0 (io), 17 P1_1 / CNTR1 (io), 18 P1_0 (io), 19 P0_3 (io), 20 P0_2 / SCK (io), 21 P0_1 / SOUT (io), 22 P0_0 / SIN (io), 23 P3_1 / AIN3 (io), 24 P3_0 / AIN2 (io)

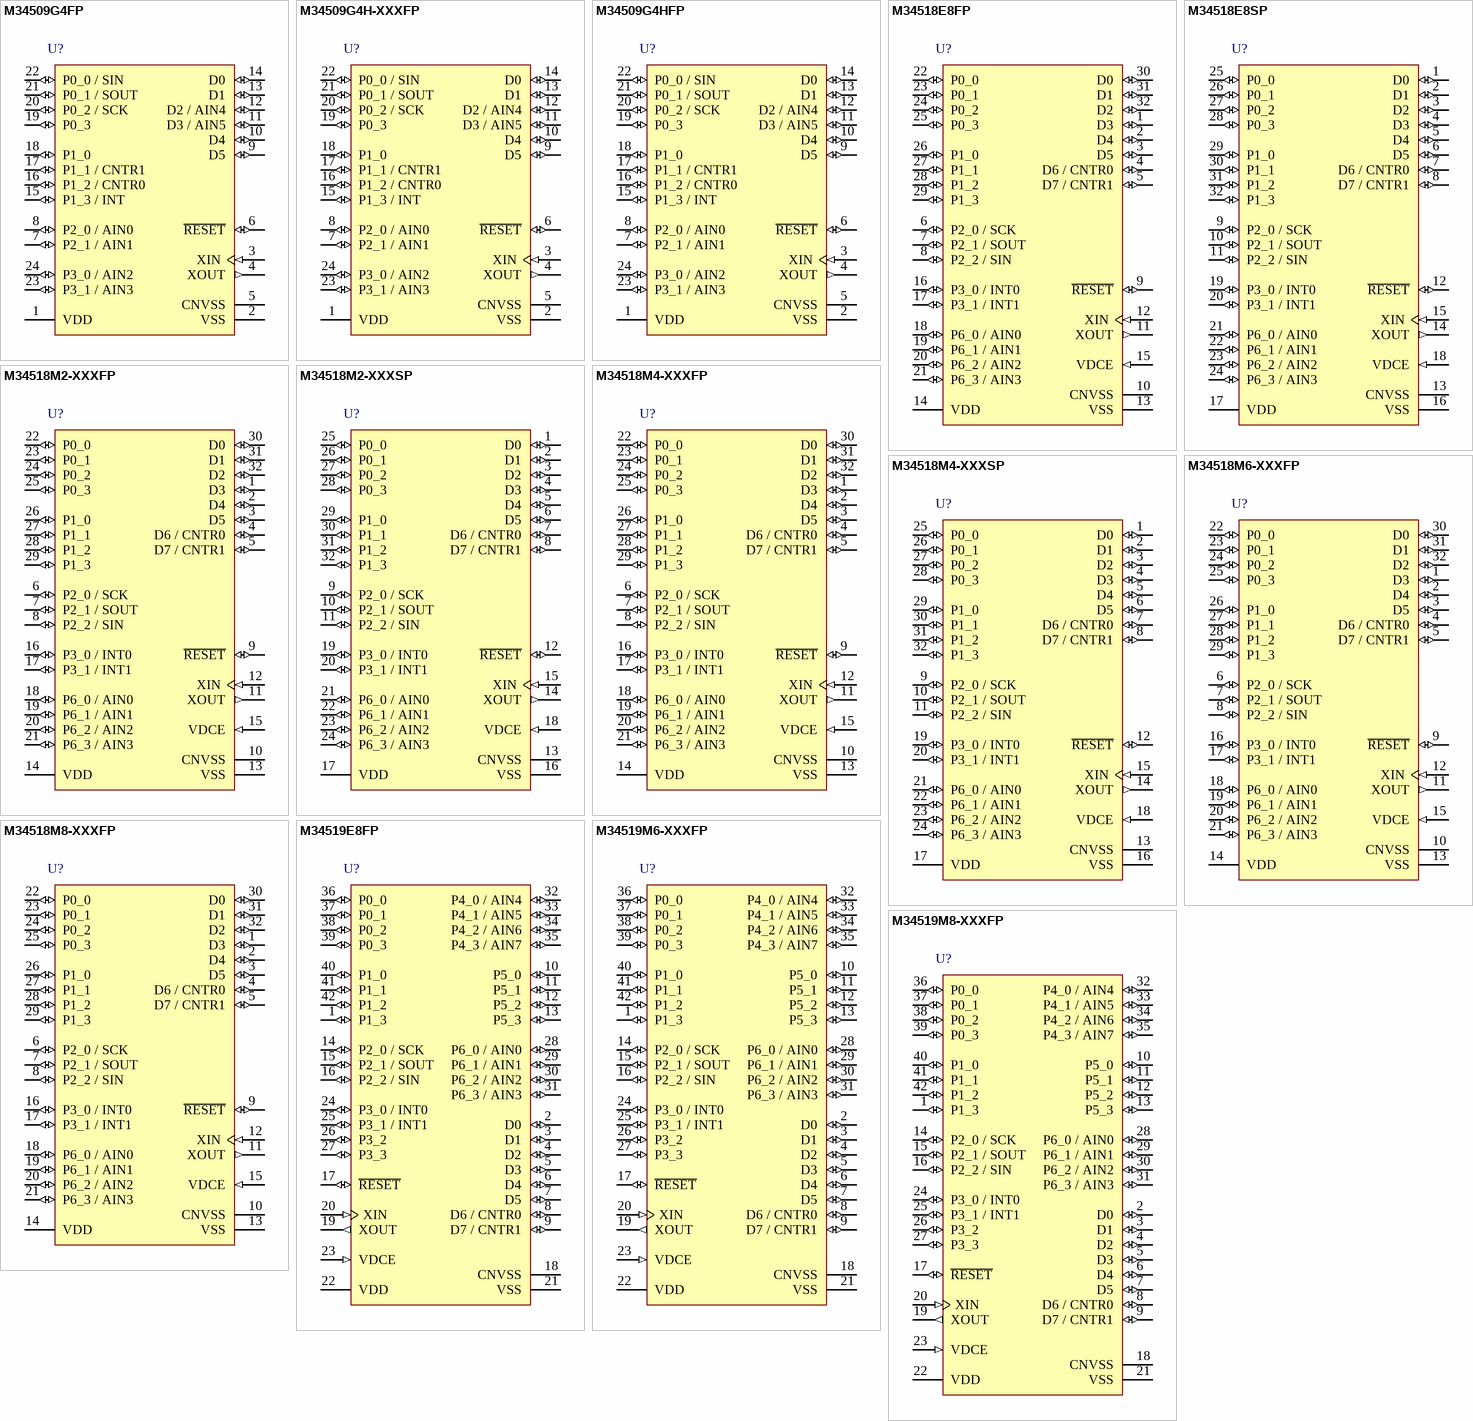
[diagram p1: symbols M34509G4FP to M34519M8-XXXFP]

## M34509G4FP
designator U?
QzROM 4-BIT CMOS Microcomputer, 4500/720 Series CPU, 4509 Group, 4096 x 10 bit ROM, 256 x 4 bit RAM, 134 basic instructions, 24P2Q-A Pkg, shipped in blank; Published: 28-Aug-2009; DatasheetVersion: Rev.1.03, Jul-2009; PackageVersion: Sep-2005; PackageReference: PRSP0024GA-A; Publisher: Altium Limited; PackageDescription: 24-Pin Plastic Shrink SOP, 10.1 x 5.3 x 1.8 mm Body, 0.8 mm Pitch; Code_JEITA: P-SSOP24-5.3x10.1-0.80; ComponentLink1Description: Manufacturer Link; ComponentLink1URL: http://sg.renesas.com/fmwk.jsp?cnt=720_family_landing.jsp&fp=/products/mpumcu/720_family/; ComponentLink2Description: Datasheet; ComponentLink2URL: http://documentation.renesas.com/eng/products/mpumcu/rej03b0147_4509ds.pdf; ComponentLink3Description: Packaging Specification; ComponentLink3URL: http://sg.renesas.com/media/products/common_info/package/pdf/ic/code/prsp0024ga_a.pdf
footprint PRSP0024GA-A_N (SOP, 24-Leads, Body 10.1x5.3mm, Pitch 0.8mm, IPC Medium Density)
footprint PRSP0024GA-A_L (SOP, 24-Leads, Body 10.1x5.3mm, Pitch 0.8mm, IPC High Density)
footprint PRSP0024GA-A_M (SOP, 24-Leads, Body 10.1x5.3mm, Pitch 0.8mm, IPC Low Density)
pins: 1 VDD (power), 2 VSS (power), 3 XIN (in), 4 XOUT (out), 5 CNVSS (power), 6 ~{RESET} (io), 7 P2_1 / AIN1 (io), 8 P2_0 / AIN0 (io), 9 D5 (io), 10 D4 (io), 11 D3 / AIN5 (io), 12 D2 / AIN4 (io), 13 D1 (io), 14 D0 (io), 15 P1_3 / INT (io), 16 P1_2 / CNTR0 (io), 17 P1_1 / CNTR1 (io), 18 P1_0 (io), 19 P0_3 (io), 20 P0_2 / SCK (io), 21 P0_1 / SOUT (io), 22 P0_0 / SIN (io), 23 P3_1 / AIN3 (io), 24 P3_0 / AIN2 (io)

## M34509G4H-XXXFP
designator U?
QzROM 4-BIT CMOS Microcomputer, 4500/720 Series CPU, 4509 Group, 4096 x 10 bit ROM, 256 x 4 bit RAM, 135 basic instructions, 24P2Q-A Pkg; Published: 28-Aug-2009; DatasheetVersion: Rev.1.03, Jul-2009; PackageVersion: Sep-2005; PackageReference: PRSP0024GA-A; Publisher: Altium Limited; PackageDescription: 24-Pin Plastic Shrink SOP, 10.1 x 5.3 x 1.8 mm Body, 0.8 mm Pitch; Code_JEITA: P-SSOP24-5.3x10.1-0.80; ComponentLink1Description: Manufacturer Link; ComponentLink1URL: http://sg.renesas.com/fmwk.jsp?cnt=720_family_landing.jsp&fp=/products/mpumcu/720_family/; ComponentLink2Description: Datasheet; ComponentLink2URL: http://documentation.renesas.com/eng/products/mpumcu/rej03b0147_4509ds.pdf; ComponentLink3Description: Packaging Specification; ComponentLink3URL: http://sg.renesas.com/media/products/common_info/package/pdf/ic/code/prsp0024ga_a.pdf
footprint PRSP0024GA-A_N (SOP, 24-Leads, Body 10.1x5.3mm, Pitch 0.8mm, IPC Medium Density)
footprint PRSP0024GA-A_L (SOP, 24-Leads, Body 10.1x5.3mm, Pitch 0.8mm, IPC High Density)
footprint PRSP0024GA-A_M (SOP, 24-Leads, Body 10.1x5.3mm, Pitch 0.8mm, IPC Low Density)
pins: 1 VDD (power), 2 VSS (power), 3 XIN (in), 4 XOUT (out), 5 CNVSS (power), 6 ~{RESET} (io), 7 P2_1 / AIN1 (io), 8 P2_0 / AIN0 (io), 9 D5 (io), 10 D4 (io), 11 D3 / AIN5 (io), 12 D2 / AIN4 (io), 13 D1 (io), 14 D0 (io), 15 P1_3 / INT (io), 16 P1_2 / CNTR0 (io), 17 P1_1 / CNTR1 (io), 18 P1_0 (io), 19 P0_3 (io), 20 P0_2 / SCK (io), 21 P0_1 / SOUT (io), 22 P0_0 / SIN (io), 23 P3_1 / AIN3 (io), 24 P3_0 / AIN2 (io)

## M34509G4HFP
designator U?
QzROM 4-BIT CMOS Microcomputer, 4500/720 Series CPU, 4509 Group, 4096 x 10 bit ROM, 256 x 4 bit RAM, 135 basic instructions, 24P2Q-A Pkg, shipped in blank; Published: 28-Aug-2009; DatasheetVersion: Rev.1.03, Jul-2009; PackageVersion: Sep-2005; PackageReference: PRSP0024GA-A; Publisher: Altium Limited; PackageDescription: 24-Pin Plastic Shrink SOP, 10.1 x 5.3 x 1.8 mm Body, 0.8 mm Pitch; Code_JEITA: P-SSOP24-5.3x10.1-0.80; ComponentLink1Description: Manufacturer Link; ComponentLink1URL: http://sg.renesas.com/fmwk.jsp?cnt=720_family_landing.jsp&fp=/products/mpumcu/720_family/; ComponentLink2Description: Datasheet; ComponentLink2URL: http://documentation.renesas.com/eng/products/mpumcu/rej03b0147_4509ds.pdf; ComponentLink3Description: Packaging Specification; ComponentLink3URL: http://sg.renesas.com/media/products/common_info/package/pdf/ic/code/prsp0024ga_a.pdf
footprint PRSP0024GA-A_N (SOP, 24-Leads, Body 10.1x5.3mm, Pitch 0.8mm, IPC Medium Density)
footprint PRSP0024GA-A_L (SOP, 24-Leads, Body 10.1x5.3mm, Pitch 0.8mm, IPC High Density)
footprint PRSP0024GA-A_M (SOP, 24-Leads, Body 10.1x5.3mm, Pitch 0.8mm, IPC Low Density)
pins: 1 VDD (power), 2 VSS (power), 3 XIN (in), 4 XOUT (out), 5 CNVSS (power), 6 ~{RESET} (io), 7 P2_1 / AIN1 (io), 8 P2_0 / AIN0 (io), 9 D5 (io), 10 D4 (io), 11 D3 / AIN5 (io), 12 D2 / AIN4 (io), 13 D1 (io), 14 D0 (io), 15 P1_3 / INT (io), 16 P1_2 / CNTR0 (io), 17 P1_1 / CNTR1 (io), 18 P1_0 (io), 19 P0_3 (io), 20 P0_2 / SCK (io), 21 P0_1 / SOUT (io), 22 P0_0 / SIN (io), 23 P3_1 / AIN3 (io), 24 P3_0 / AIN2 (io)

## M34518E8FP
designator U?
OTP 4-BIT CMOS Microcomputer, 4500/720 Series CPU, 4518 Group, 8192 x 10 bit ROM, 384 x 4 bit RAM, 32P6U-A Pkg; Published: 28-Aug-2009; DatasheetVersion: Rev.3.01, Jun-2005; PackageVersion: Oct-2005; PackageReference: PLQP0032GB-A; Publisher: Altium Limited; PackageDescription: 32-Pin Plastic Low Profile QFP, 7 x 7 x 1.4 mm Body, 0.8 mm Pitch; Code_JEITA: P-LQFP32-7x7-0.80; ComponentLink1Description: Manufacturer Link; ComponentLink1URL: http://sg.renesas.com/fmwk.jsp?cnt=720_family_landing.jsp&fp=/products/mpumcu/720_family/; ComponentLink2Description: Datasheet; ComponentLink2URL: http://documentation.renesas.com/eng/products/mpumcu/rej03b0008_4518ds.pdf; ComponentLink3Description: Packaging Specification; ComponentLink3URL: http://sg.renesas.com/media/products/common_info/package/pdf/ic/code/plqp0032gb_a.pdf
footprint PLQP0032GB-A_N (QFP, 32-Leads, Body 7x7mm, Pitch 0.8mm, IPC Medium Density)
footprint PLQP0032GB-A_L (QFP, 32-Leads, Body 7x7mm, Pitch 0.8mm, IPC High Density)
footprint PLQP0032GB-A_M (QFP, 32-Leads, Body 7x7mm, Pitch 0.8mm, IPC Low Density)
pins: 1 D3 (io), 2 D4 (io), 3 D5 (io), 4 D6 / CNTR0 (io), 5 D7 / CNTR1 (io), 6 P2_0 / SCK (io), 7 P2_1 / SOUT (io), 8 P2_2 / SIN (io), 9 ~{RESET} (io), 10 CNVSS (power), 11 XOUT (out), 12 XIN (in), 13 VSS (power), 14 VDD (power), 15 VDCE (in), 16 P3_0 / INT0 (io), 17 P3_1 / INT1 (io), 18 P6_0 / AIN0 (io), 19 P6_1 / AIN1 (io), 20 P6_2 / AIN2 (io), 21 P6_3 / AIN3 (io), 22 P0_0 (io), 23 P0_1 (io), 24 P0_2 (io), 25 P0_3 (io), 26 P1_0 (io), 27 P1_1 (io), 28 P1_2 (io), 29 P1_3 (io), 30 D0 (io), 31 D1 (io), 32 D2 (io)

## M34518E8SP
designator U?
OTP 4-BIT CMOS Microcomputer, 4500/720 Series CPU, 4518 Group, 8192 x 10 bit ROM, 384 x 4 bit RAM, 32P4B Pkg; Published: 28-Aug-2009; DatasheetVersion: Rev.3.01, Jun-2005; PackageVersion: Sep-2005; PackageReference: PRDP0032BA-A; Publisher: Altium Limited; PackageDescription: 32-Pin Plastic Shrink DIP, 28 x 8.9 mm Body, 10.16 mm Row Spacing , 1.778 mm Pitch; Code_JEITA: P-SDIP32-8.9x28-1.78; ComponentLink1Description: Manufacturer Link; ComponentLink1URL: http://sg.renesas.com/fmwk.jsp?cnt=720_family_landing.jsp&fp=/products/mpumcu/720_family/; ComponentLink2Description: Datasheet; ComponentLink2URL: http://documentation.renesas.com/eng/products/mpumcu/rej03b0008_4518ds.pdf; ComponentLink3Description: Packaging Specification; ComponentLink3URL: http://sg.renesas.com/media/products/common_info/package/pdf/ic/code/prdp0032ba_a.pdf
footprint PRDP0032BA-A (DIP, 32-Leads, Row Spacing 10.16mm, Pitch 1.778mm, Body 28x8.9mm)
pins: 1 D0 (io), 2 D1 (io), 3 D2 (io), 4 D3 (io), 5 D4 (io), 6 D5 (io), 7 D6 / CNTR0 (io), 8 D7 / CNTR1 (io), 9 P2_0 / SCK (io), 10 P2_1 / SOUT (io), 11 P2_2 / SIN (io), 12 ~{RESET} (io), 13 CNVSS (power), 14 XOUT (out), 15 XIN (in), 16 VSS (power), 17 VDD (power), 18 VDCE (in), 19 P3_0 / INT0 (io), 20 P3_1 / INT1 (io), 21 P6_0 / AIN0 (io), 22 P6_1 / AIN1 (io), 23 P6_2 / AIN2 (io), 24 P6_3 / AIN3 (io), 25 P0_0 (io), 26 P0_1 (io), 27 P0_2 (io), 28 P0_3 (io), 29 P1_0 (io), 30 P1_1 (io), 31 P1_2 (io), 32 P1_3 (io)

## M34518M2-XXXFP
designator U?
Mask ROM 4-BIT CMOS Microcomputer, 4500/720 Series CPU, 4518 Group, 2048 x 10 bit ROM, 256 x 4 bit RAM, 32P6U-A Pkg; Published: 28-Aug-2009; DatasheetVersion: Rev.3.01, Jun-2005; PackageVersion: Oct-2005; PackageReference: PLQP0032GB-A; Publisher: Altium Limited; PackageDescription: 32-Pin Plastic Low Profile QFP, 7 x 7 x 1.4 mm Body, 0.8 mm Pitch; Code_JEITA: P-LQFP32-7x7-0.80; ComponentLink1Description: Manufacturer Link; ComponentLink1URL: http://sg.renesas.com/fmwk.jsp?cnt=720_family_landing.jsp&fp=/products/mpumcu/720_family/; ComponentLink2Description: Datasheet; ComponentLink2URL: http://documentation.renesas.com/eng/products/mpumcu/rej03b0008_4518ds.pdf; ComponentLink3Description: Packaging Specification; ComponentLink3URL: http://sg.renesas.com/media/products/common_info/package/pdf/ic/code/plqp0032gb_a.pdf
footprint PLQP0032GB-A_N (QFP, 32-Leads, Body 7x7mm, Pitch 0.8mm, IPC Medium Density)
footprint PLQP0032GB-A_L (QFP, 32-Leads, Body 7x7mm, Pitch 0.8mm, IPC High Density)
footprint PLQP0032GB-A_M (QFP, 32-Leads, Body 7x7mm, Pitch 0.8mm, IPC Low Density)
pins: 1 D3 (io), 2 D4 (io), 3 D5 (io), 4 D6 / CNTR0 (io), 5 D7 / CNTR1 (io), 6 P2_0 / SCK (io), 7 P2_1 / SOUT (io), 8 P2_2 / SIN (io), 9 ~{RESET} (io), 10 CNVSS (power), 11 XOUT (out), 12 XIN (in), 13 VSS (power), 14 VDD (power), 15 VDCE (in), 16 P3_0 / INT0 (io), 17 P3_1 / INT1 (io), 18 P6_0 / AIN0 (io), 19 P6_1 / AIN1 (io), 20 P6_2 / AIN2 (io), 21 P6_3 / AIN3 (io), 22 P0_0 (io), 23 P0_1 (io), 24 P0_2 (io), 25 P0_3 (io), 26 P1_0 (io), 27 P1_1 (io), 28 P1_2 (io), 29 P1_3 (io), 30 D0 (io), 31 D1 (io), 32 D2 (io)

## M34518M2-XXXSP
designator U?
Mask ROM 4-BIT CMOS Microcomputer, 4500/720 Series CPU, 4518 Group, 2048 x 10 bit ROM, 256 x 4 bit RAM, 32P4B Pkg; Published: 28-Aug-2009; DatasheetVersion: Rev.3.01, Jun-2005; PackageVersion: Sep-2005; PackageReference: PRDP0032BA-A; Publisher: Altium Limited; PackageDescription: 32-Pin Plastic Shrink DIP, 28 x 8.9 mm Body, 10.16 mm Row Spacing , 1.778 mm Pitch; Code_JEITA: P-SDIP32-8.9x28-1.78; ComponentLink1Description: Manufacturer Link; ComponentLink1URL: http://sg.renesas.com/fmwk.jsp?cnt=720_family_landing.jsp&fp=/products/mpumcu/720_family/; ComponentLink2Description: Datasheet; ComponentLink2URL: http://documentation.renesas.com/eng/products/mpumcu/rej03b0008_4518ds.pdf; ComponentLink3Description: Packaging Specification; ComponentLink3URL: http://sg.renesas.com/media/products/common_info/package/pdf/ic/code/prdp0032ba_a.pdf
footprint PRDP0032BA-A (DIP, 32-Leads, Row Spacing 10.16mm, Pitch 1.778mm, Body 28x8.9mm)
pins: 1 D0 (io), 2 D1 (io), 3 D2 (io), 4 D3 (io), 5 D4 (io), 6 D5 (io), 7 D6 / CNTR0 (io), 8 D7 / CNTR1 (io), 9 P2_0 / SCK (io), 10 P2_1 / SOUT (io), 11 P2_2 / SIN (io), 12 ~{RESET} (io), 13 CNVSS (power), 14 XOUT (out), 15 XIN (in), 16 VSS (power), 17 VDD (power), 18 VDCE (in), 19 P3_0 / INT0 (io), 20 P3_1 / INT1 (io), 21 P6_0 / AIN0 (io), 22 P6_1 / AIN1 (io), 23 P6_2 / AIN2 (io), 24 P6_3 / AIN3 (io), 25 P0_0 (io), 26 P0_1 (io), 27 P0_2 (io), 28 P0_3 (io), 29 P1_0 (io), 30 P1_1 (io), 31 P1_2 (io), 32 P1_3 (io)

## M34518M4-XXXFP
designator U?
Mask ROM 4-BIT CMOS Microcomputer, 4500/720 Series CPU, 4518 Group, 4096 x 10 bit ROM, 256 x 4 bit RAM, 32P6U-A Pkg; Published: 28-Aug-2009; DatasheetVersion: Rev.3.01, Jun-2005; PackageVersion: Oct-2005; PackageReference: PLQP0032GB-A; Publisher: Altium Limited; PackageDescription: 32-Pin Plastic Low Profile QFP, 7 x 7 x 1.4 mm Body, 0.8 mm Pitch; Code_JEITA: P-LQFP32-7x7-0.80; ComponentLink1Description: Manufacturer Link; ComponentLink1URL: http://sg.renesas.com/fmwk.jsp?cnt=720_family_landing.jsp&fp=/products/mpumcu/720_family/; ComponentLink2Description: Datasheet; ComponentLink2URL: http://documentation.renesas.com/eng/products/mpumcu/rej03b0008_4518ds.pdf; ComponentLink3Description: Packaging Specification; ComponentLink3URL: http://sg.renesas.com/media/products/common_info/package/pdf/ic/code/plqp0032gb_a.pdf
footprint PLQP0032GB-A_N (QFP, 32-Leads, Body 7x7mm, Pitch 0.8mm, IPC Medium Density)
footprint PLQP0032GB-A_L (QFP, 32-Leads, Body 7x7mm, Pitch 0.8mm, IPC High Density)
footprint PLQP0032GB-A_M (QFP, 32-Leads, Body 7x7mm, Pitch 0.8mm, IPC Low Density)
pins: 1 D3 (io), 2 D4 (io), 3 D5 (io), 4 D6 / CNTR0 (io), 5 D7 / CNTR1 (io), 6 P2_0 / SCK (io), 7 P2_1 / SOUT (io), 8 P2_2 / SIN (io), 9 ~{RESET} (io), 10 CNVSS (power), 11 XOUT (out), 12 XIN (in), 13 VSS (power), 14 VDD (power), 15 VDCE (in), 16 P3_0 / INT0 (io), 17 P3_1 / INT1 (io), 18 P6_0 / AIN0 (io), 19 P6_1 / AIN1 (io), 20 P6_2 / AIN2 (io), 21 P6_3 / AIN3 (io), 22 P0_0 (io), 23 P0_1 (io), 24 P0_2 (io), 25 P0_3 (io), 26 P1_0 (io), 27 P1_1 (io), 28 P1_2 (io), 29 P1_3 (io), 30 D0 (io), 31 D1 (io), 32 D2 (io)

## M34518M4-XXXSP
designator U?
Mask ROM 4-BIT CMOS Microcomputer, 4500/720 Series CPU, 4518 Group, 4096 x 10 bit ROM, 256 x 4 bit RAM, 32P4B Pkg; Published: 28-Aug-2009; DatasheetVersion: Rev.3.01, Jun-2005; PackageVersion: Sep-2005; PackageReference: PRDP0032BA-A; Publisher: Altium Limited; PackageDescription: 32-Pin Plastic Shrink DIP, 28 x 8.9 mm Body, 10.16 mm Row Spacing , 1.778 mm Pitch; Code_JEITA: P-SDIP32-8.9x28-1.78; ComponentLink1Description: Manufacturer Link; ComponentLink1URL: http://sg.renesas.com/fmwk.jsp?cnt=720_family_landing.jsp&fp=/products/mpumcu/720_family/; ComponentLink2Description: Datasheet; ComponentLink2URL: http://documentation.renesas.com/eng/products/mpumcu/rej03b0008_4518ds.pdf; ComponentLink3Description: Packaging Specification; ComponentLink3URL: http://sg.renesas.com/media/products/common_info/package/pdf/ic/code/prdp0032ba_a.pdf
footprint PRDP0032BA-A (DIP, 32-Leads, Row Spacing 10.16mm, Pitch 1.778mm, Body 28x8.9mm)
pins: 1 D0 (io), 2 D1 (io), 3 D2 (io), 4 D3 (io), 5 D4 (io), 6 D5 (io), 7 D6 / CNTR0 (io), 8 D7 / CNTR1 (io), 9 P2_0 / SCK (io), 10 P2_1 / SOUT (io), 11 P2_2 / SIN (io), 12 ~{RESET} (io), 13 CNVSS (power), 14 XOUT (out), 15 XIN (in), 16 VSS (power), 17 VDD (power), 18 VDCE (in), 19 P3_0 / INT0 (io), 20 P3_1 / INT1 (io), 21 P6_0 / AIN0 (io), 22 P6_1 / AIN1 (io), 23 P6_2 / AIN2 (io), 24 P6_3 / AIN3 (io), 25 P0_0 (io), 26 P0_1 (io), 27 P0_2 (io), 28 P0_3 (io), 29 P1_0 (io), 30 P1_1 (io), 31 P1_2 (io), 32 P1_3 (io)

## M34518M6-XXXFP
designator U?
Mask ROM 4-BIT CMOS Microcomputer, 4500/720 Series CPU, 4518 Group, 6144 x 10 bit ROM, 384 x 4 bit RAM, 32P6U-A Pkg; Published: 28-Aug-2009; DatasheetVersion: Rev.3.01, Jun-2005; PackageVersion: Oct-2005; PackageReference: PLQP0032GB-A; Publisher: Altium Limited; PackageDescription: 32-Pin Plastic Low Profile QFP, 7 x 7 x 1.4 mm Body, 0.8 mm Pitch; Code_JEITA: P-LQFP32-7x7-0.80; ComponentLink1Description: Manufacturer Link; ComponentLink1URL: http://sg.renesas.com/fmwk.jsp?cnt=720_family_landing.jsp&fp=/products/mpumcu/720_family/; ComponentLink2Description: Datasheet; ComponentLink2URL: http://documentation.renesas.com/eng/products/mpumcu/rej03b0008_4518ds.pdf; ComponentLink3Description: Packaging Specification; ComponentLink3URL: http://sg.renesas.com/media/products/common_info/package/pdf/ic/code/plqp0032gb_a.pdf
footprint PLQP0032GB-A_N (QFP, 32-Leads, Body 7x7mm, Pitch 0.8mm, IPC Medium Density)
footprint PLQP0032GB-A_L (QFP, 32-Leads, Body 7x7mm, Pitch 0.8mm, IPC High Density)
footprint PLQP0032GB-A_M (QFP, 32-Leads, Body 7x7mm, Pitch 0.8mm, IPC Low Density)
pins: 1 D3 (io), 2 D4 (io), 3 D5 (io), 4 D6 / CNTR0 (io), 5 D7 / CNTR1 (io), 6 P2_0 / SCK (io), 7 P2_1 / SOUT (io), 8 P2_2 / SIN (io), 9 ~{RESET} (io), 10 CNVSS (power), 11 XOUT (out), 12 XIN (in), 13 VSS (power), 14 VDD (power), 15 VDCE (in), 16 P3_0 / INT0 (io), 17 P3_1 / INT1 (io), 18 P6_0 / AIN0 (io), 19 P6_1 / AIN1 (io), 20 P6_2 / AIN2 (io), 21 P6_3 / AIN3 (io), 22 P0_0 (io), 23 P0_1 (io), 24 P0_2 (io), 25 P0_3 (io), 26 P1_0 (io), 27 P1_1 (io), 28 P1_2 (io), 29 P1_3 (io), 30 D0 (io), 31 D1 (io), 32 D2 (io)

## M34518M8-XXXFP
designator U?
Mask ROM 4-BIT CMOS Microcomputer, 4500/720 Series CPU, 4518 Group, 8192 x 10 bit ROM, 384 x 4 bit RAM, 32P6U-A Pkg; Published: 28-Aug-2009; DatasheetVersion: Rev.3.01, Jun-2005; PackageVersion: Oct-2005; PackageReference: PLQP0032GB-A; Publisher: Altium Limited; PackageDescription: 32-Pin Plastic Low Profile QFP, 7 x 7 x 1.4 mm Body, 0.8 mm Pitch; Code_JEITA: P-LQFP32-7x7-0.80; ComponentLink1Description: Manufacturer Link; ComponentLink1URL: http://sg.renesas.com/fmwk.jsp?cnt=720_family_landing.jsp&fp=/products/mpumcu/720_family/; ComponentLink2Description: Datasheet; ComponentLink2URL: http://documentation.renesas.com/eng/products/mpumcu/rej03b0008_4518ds.pdf; ComponentLink3Description: Packaging Specification; ComponentLink3URL: http://sg.renesas.com/media/products/common_info/package/pdf/ic/code/plqp0032gb_a.pdf
footprint PLQP0032GB-A_N (QFP, 32-Leads, Body 7x7mm, Pitch 0.8mm, IPC Medium Density)
footprint PLQP0032GB-A_L (QFP, 32-Leads, Body 7x7mm, Pitch 0.8mm, IPC High Density)
footprint PLQP0032GB-A_M (QFP, 32-Leads, Body 7x7mm, Pitch 0.8mm, IPC Low Density)
pins: 1 D3 (io), 2 D4 (io), 3 D5 (io), 4 D6 / CNTR0 (io), 5 D7 / CNTR1 (io), 6 P2_0 / SCK (io), 7 P2_1 / SOUT (io), 8 P2_2 / SIN (io), 9 ~{RESET} (io), 10 CNVSS (power), 11 XOUT (out), 12 XIN (in), 13 VSS (power), 14 VDD (power), 15 VDCE (in), 16 P3_0 / INT0 (io), 17 P3_1 / INT1 (io), 18 P6_0 / AIN0 (io), 19 P6_1 / AIN1 (io), 20 P6_2 / AIN2 (io), 21 P6_3 / AIN3 (io), 22 P0_0 (io), 23 P0_1 (io), 24 P0_2 (io), 25 P0_3 (io), 26 P1_0 (io), 27 P1_1 (io), 28 P1_2 (io), 29 P1_3 (io), 30 D0 (io), 31 D1 (io), 32 D2 (io)

## M34519E8FP
designator U?
OTP 4-BIT CMOS Microcomputer, 4500/720 Series CPU, 4519 Group, 8192 x 10 bit ROM, 384 x 4 bit RAM, 42P2R-A Pkg; Published: 28-Aug-2009; DatasheetVersion: Rev.1.00, Aug-2004; PackageVersion: Oct-2006; PackageReference: PRSP0042GC-A; Publisher: Altium Limited; PackageDescription: 42-Pin Plastic Shrink SOP, 17.5 x 8.4 mm Body, 0.8 mm Pitch; Code_JEITA: P-SSOP42-8.4x17.5-0.80; ComponentLink1Description: Manufacturer Link; ComponentLink1URL: http://sg.renesas.com/fmwk.jsp?cnt=720_family_landing.jsp&fp=/products/mpumcu/720_family/; ComponentLink2Description: Datasheet; ComponentLink2URL: http://documentation.renesas.com/eng/products/mpumcu/rej09b0175_4519um.pdf; ComponentLink3Description: Packaging Specification; ComponentLink3URL: http://sg.renesas.com/media/products/common_info/package/pdf/ic/code/prsp0042gc_a.pdf
footprint PRSP0042GC-A_N (SOP, 42-Leads, Body 17.5x8.4mm, Pitch 0.8mm, IPC Medium Density)
footprint PRSP0042GC-A_L (SOP, 42-Leads, Body 17.5x8.4mm, Pitch 0.8mm, IPC High Density)
footprint PRSP0042GC-A_M (SOP, 42-Leads, Body 17.5x8.4mm, Pitch 0.8mm, IPC Low Density)
pins: 1 P1_3 (io), 2 D0 (io), 3 D1 (io), 4 D2 (io), 5 D3 (io), 6 D4 (io), 7 D5 (io), 8 D6 / CNTR0 (io), 9 D7 / CNTR1 (io), 10 P5_0 (io), 11 P5_1 (io), 12 P5_2 (io), 13 P5_3 (io), 14 P2_0 / SCK (io), 15 P2_1 / SOUT (io), 16 P2_2 / SIN (io), 17 ~{RESET} (io), 18 CNVSS (power), 19 XOUT (out), 20 XIN (in), 21 VSS (power), 22 VDD (power), 23 VDCE (in), 24 P3_0 / INT0 (io), 25 P3_1 / INT1 (io), 26 P3_2 (io), 27 P3_3 (io), 28 P6_0 / AIN0 (io), 29 P6_1 / AIN1 (io), 30 P6_2 / AIN2 (io), 31 P6_3 / AIN3 (io), 32 P4_0 / AIN4 (io), 33 P4_1 / AIN5 (io), 34 P4_2 / AIN6 (io), 35 P4_3 / AIN7 (io), 36 P0_0 (io), 37 P0_1 (io), 38 P0_2 (io), 39 P0_3 (io), 40 P1_0 (io), 41 P1_1 (io), 42 P1_2 (io)

## M34519M6-XXXFP
designator U?
Mask ROM 4-BIT CMOS Microcomputer, 4500/720 Series CPU, 4519 Group, 6144 x 10 bit ROM, 384 x 4 bit RAM, 42P2R-A Pkg; Published: 28-Aug-2009; DatasheetVersion: Rev.1.00, Aug-2004; PackageVersion: Oct-2006; PackageReference: PRSP0042GC-A; Publisher: Altium Limited; PackageDescription: 42-Pin Plastic Shrink SOP, 17.5 x 8.4 mm Body, 0.8 mm Pitch; Code_JEITA: P-SSOP42-8.4x17.5-0.80; ComponentLink1Description: Manufacturer Link; ComponentLink1URL: http://sg.renesas.com/fmwk.jsp?cnt=720_family_landing.jsp&fp=/products/mpumcu/720_family/; ComponentLink2Description: Datasheet; ComponentLink2URL: http://documentation.renesas.com/eng/products/mpumcu/rej09b0175_4519um.pdf; ComponentLink3Description: Packaging Specification; ComponentLink3URL: http://sg.renesas.com/media/products/common_info/package/pdf/ic/code/prsp0042gc_a.pdf
footprint PRSP0042GC-A_N (SOP, 42-Leads, Body 17.5x8.4mm, Pitch 0.8mm, IPC Medium Density)
footprint PRSP0042GC-A_L (SOP, 42-Leads, Body 17.5x8.4mm, Pitch 0.8mm, IPC High Density)
footprint PRSP0042GC-A_M (SOP, 42-Leads, Body 17.5x8.4mm, Pitch 0.8mm, IPC Low Density)
pins: 1 P1_3 (io), 2 D0 (io), 3 D1 (io), 4 D2 (io), 5 D3 (io), 6 D4 (io), 7 D5 (io), 8 D6 / CNTR0 (io), 9 D7 / CNTR1 (io), 10 P5_0 (io), 11 P5_1 (io), 12 P5_2 (io), 13 P5_3 (io), 14 P2_0 / SCK (io), 15 P2_1 / SOUT (io), 16 P2_2 / SIN (io), 17 ~{RESET} (io), 18 CNVSS (power), 19 XOUT (out), 20 XIN (in), 21 VSS (power), 22 VDD (power), 23 VDCE (in), 24 P3_0 / INT0 (io), 25 P3_1 / INT1 (io), 26 P3_2 (io), 27 P3_3 (io), 28 P6_0 / AIN0 (io), 29 P6_1 / AIN1 (io), 30 P6_2 / AIN2 (io), 31 P6_3 / AIN3 (io), 32 P4_0 / AIN4 (io), 33 P4_1 / AIN5 (io), 34 P4_2 / AIN6 (io), 35 P4_3 / AIN7 (io), 36 P0_0 (io), 37 P0_1 (io), 38 P0_2 (io), 39 P0_3 (io), 40 P1_0 (io), 41 P1_1 (io), 42 P1_2 (io)